# Altium footprint library PcbLib1.PcbLib: 5 footprints
Each footprint in its own frame and in the unit in brackets; x right, y up, seen from the top. Pads: shape width x height; smd on the part's side, far side on the other; paste and mask are expansions set on the pad; w line width, h text height; cw(c..) or ccw(c..) is an arc to the next point about the centre after c.
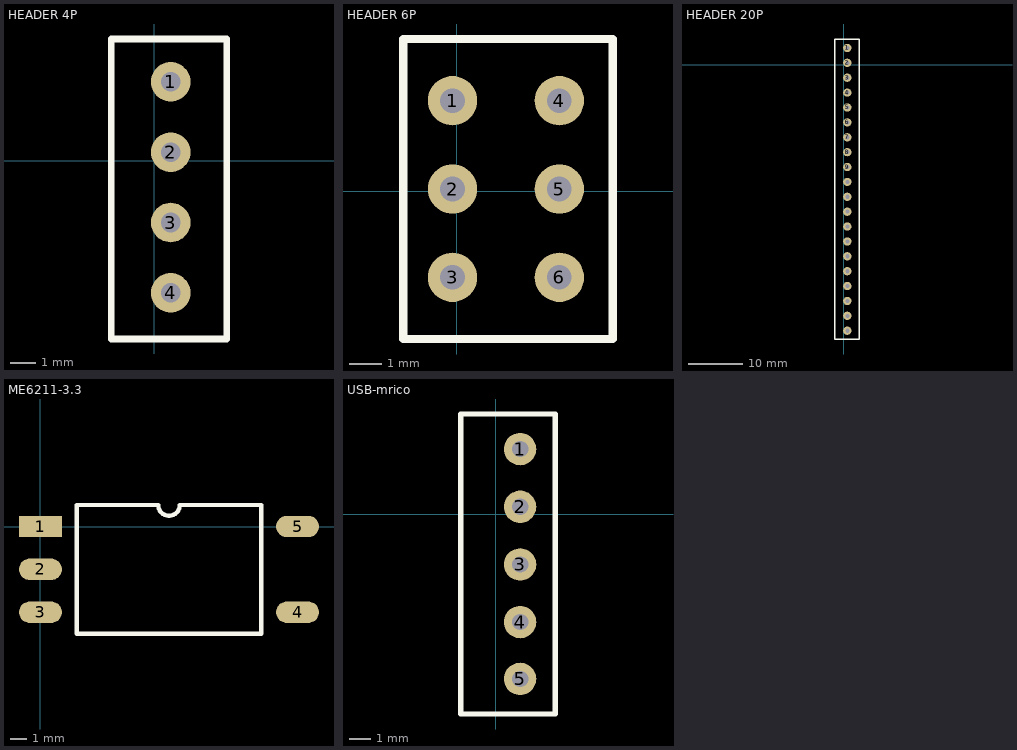
[diagram p0: the footprints below, top view; thin cyan lines are the x and y axes]

## HEADER 4P [mil]
pads (4):
  round 60 hole 30: 1(25,120) 2(25,13.33) 3(25,-93.33) 4(25,-200)
Top Overlay:
  lines w10: -65,-270 -65,185 110,185 110,-270 -65,-270

## HEADER 6P [mil]
pads (6):
  round 60 hole 30: 1(-5,110) 2(-5,2.5) 3(-5,-105) 4(125,110) 5(125,2.5) 6(125,-105)
Top Overlay:
  lines w10: -65,-180 -65,185 190,185 190,-180 -65,-180

## HEADER 20P [mil]
pads (20):
  round 60 hole 30: 1(25,120) 2(25,12.1) 3(25,-95.79) 4(25,-203.68) 5(25,-311.58) 6(25,-419.47) 7(25,-527.37) 8(25,-635.26) 9(25,-743.16) 10(25,-851.05) 11(25,-958.95) 12(25,-1066.84) 13(25,-1174.74) 14(25,-1282.63) 15(25,-1390.53) 16(25,-1498.42) 17(25,-1606.32) 18(25,-1714.21) 19(25,-1822.11) 20(25,-1930)
Top Overlay:
  lines w10: -65,-1990 -65,185 110,185 110,-1990 -65,-1990

## ME6211-3.3 [mil]
pads (5):
  rect 100x50 smd: 1(0,0)
  oval 100x50 smd: 2(0,-100) 3(0,-200) 4(600,-200) 5(600,0)
Top Overlay:
  lines w10: 85,-250 85,50 275,50 ccw(c300,50) 325,50 515,50 515,-250 85,-250

## USB-mrico [mil]
pads (5):
  round 60 hole 30: 1(45,120) 2(45,13.33) 3(45,-93.33) 4(45,-200) 5(45,-305)
Top Overlay:
  lines w10: -65,-370 110,-370 110,185 -65,185 -65,-370